# Altium footprint library SnapEDApcb.PcbLib: 1 footprints
Each footprint in its own frame and in the unit in brackets; x right, y up, seen from the top. Pads: shape width x height; smd on the part's side, far side on the other; paste and mask are expansions set on the pad; w line width, h text height; cw(c..) or ccw(c..) is an arc to the next point about the centre after c.
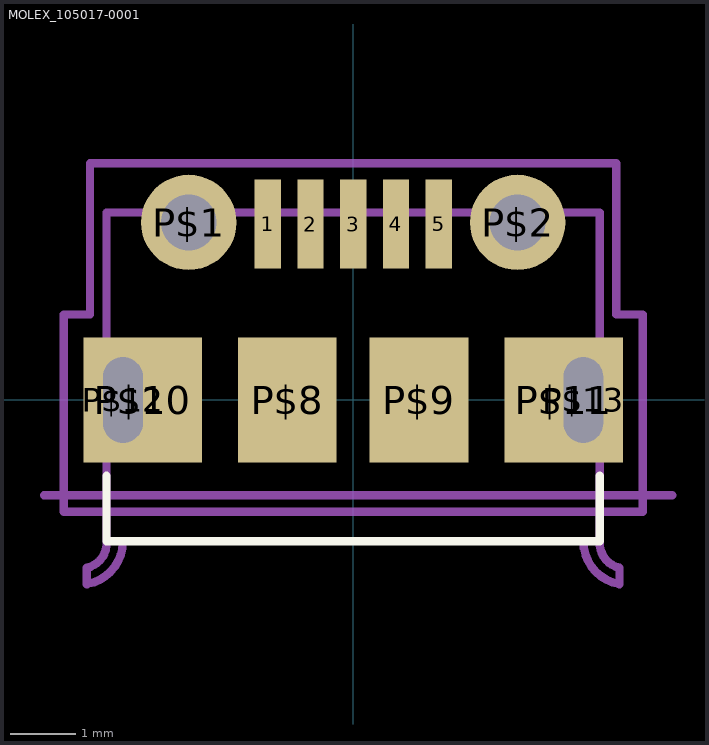
[diagram p0: the footprint, top view; thin cyan lines are the x and y axes]

## MOLEX_105017-0001 [mm]
pads (13):
  rect 0.4x1.35 smd: 1(-1.3,2.675) 2(-0.65,2.675) 3(0,2.675) 4(0.65,2.675) 5(1.3,2.675)
  round 1.45 hole 0.85: P$1(-2.5,2.7) P$2(2.5,2.7)
  rect 1.5x1.9 smd: P$8(-1,0) P$9(1,0)
  rect 1.8x1.9 smd: P$10(-3.2,0) P$11(3.2,0)
  oval 0.8x1.6 hole 0.6 slot 1.3 at 90 deg: P$12(-3.5,0) P$13(3.5,0)
Top Overlay:
  lines w0.127: -3.75,-1.15 -3.75,-2.15 3.75,-2.15 3.75,-1.15
Mechanical 13:
  lines w0.127: -4.7,-1.45 4.85,-1.45 ; -4.05,-2.8 -4.05,-2.55 ; -4.049,-2.55 ccw(c-4.128,-2.179) -3.75,-2.153 ; -4.047,-2.8 ccw(c-4.162,-2.147) -3.5,-2.147 ; -3.75,-2.15 -3.75,2.85 3.75,2.85 3.75,-2.15 ; 3.5,-2.147 ccw(c4.162,-2.147) 4.047,-2.8 ; 3.75,-2.153 ccw(c4.128,-2.179) 4.049,-2.55 ; 4.05,-2.8 4.05,-2.55
  text "PCB Edge" at 4.358,-1.453 h0.25
Mechanical 15:
  lines w0.127: -4.4,-1.7 4.4,-1.7 4.4,1.3 4,1.3 4,3.6 -4,3.6 -4,1.3 -4.4,1.3 -4.4,-1.7